# EAGLE library part AS4C16M16MD1 (library ICs)
256Mb MOBILE DDR SDRAM
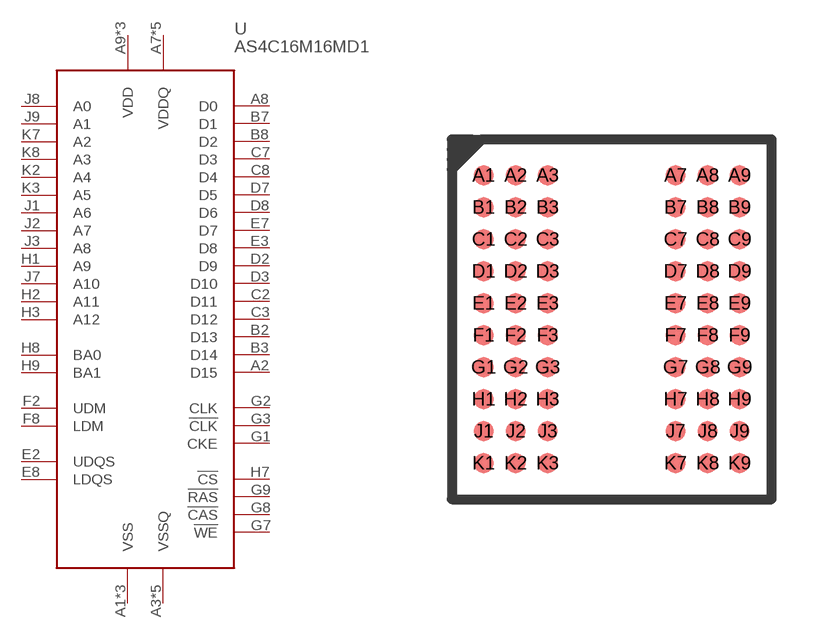
[diagram p89: symbol with the pads of FPBGA60(8X9); footprint FPBGA60(8X9)]

Designator prefix U

## AS4C16M16MD1 (DIGIKEY: 1450-1301-ND; PRICE_PER: 1.95; VALUE: AS4C16M16MD1)  [FPBGA60(8X9)]
A1  VSS
A2  D15
A3  VSSQ
A7  VDDQ
A8  D0
A9  VDD
B1  VDDQ
B2  D13
B3  D14
B7  D1
B8  D2
B9  VSSQ
C1  VSSQ
C2  D11
C3  D12
C7  D3
C8  D4
C9  VDDQ
D1  VDDQ
D2  D9
D3  D10
D7  D5
D8  D6
D9  VSSQ
E1  VSSQ
E2  UDQS
E3  D8
E7  D7
E8  LDQS
E9  VDDQ
F1  VSS
F2  UDM
F8  LDM
F9  VDD
G1  CKE
G2  CLK
G3  !CLK
G7  !WE
G8  !CAS
G9  !RAS
H1  A9
H2  A11
H3  A12
H7  !CS
H8  BA0
H9  BA1
J1  A6
J2  A7
J3  A8
J7  A10
J8  A0
J9  A1
K1  VSS
K2  A4
K3  A5
K7  A2
K8  A3
K9  VDD

## Footprint FPBGA60(8X9) (pad centres in mm)
smd 0.5 x 0.5: A1 -3.2,3.6; A2 -2.4,3.6; A3 -1.6,3.6; A7 1.6,3.6; A8 2.4,3.6; A9 3.2,3.6; B1 -3.2,2.8; B2 -2.4,2.8; B3 -1.6,2.8; B7 1.6,2.8; B8 2.4,2.8; B9 3.2,2.8; C1 -3.2,2; C2 -2.4,2; C3 -1.6,2; C7 1.6,2; C8 2.4,2; C9 3.2,2; D1 -3.2,1.2; D2 -2.4,1.2; D3 -1.6,1.2; D7 1.6,1.2; D8 2.4,1.2; D9 3.2,1.2; E1 -3.2,0.4; E2 -2.4,0.4; E3 -1.6,0.4; E7 1.6,0.4; E8 2.4,0.4; E9 3.2,0.4; F1 -3.2,-0.4; F2 -2.4,-0.4; F3 -1.6,-0.4; F7 1.6,-0.4; F8 2.4,-0.4; F9 3.2,-0.4; G1 -3.2,-1.2; G2 -2.4,-1.2; G3 -1.6,-1.2; G7 1.6,-1.2; G8 2.4,-1.2; G9 3.2,-1.2; H1 -3.2,-2; H2 -2.4,-2; H3 -1.6,-2; H7 1.6,-2; H8 2.4,-2; H9 3.2,-2; J1 -3.2,-2.8; J2 -2.4,-2.8; J3 -1.6,-2.8; J7 1.6,-2.8; J8 2.4,-2.8; J9 3.2,-2.8; K1 -3.2,-3.6; K2 -2.4,-3.6; K3 -1.6,-3.6; K7 1.6,-3.6; K8 2.4,-3.6; K9 3.2,-3.6